# Altium schematic symbol library VC_SchematicLib.SchLib: 86 symbols
Pins are listed as number, name and electrical type; pins without a type are passive.

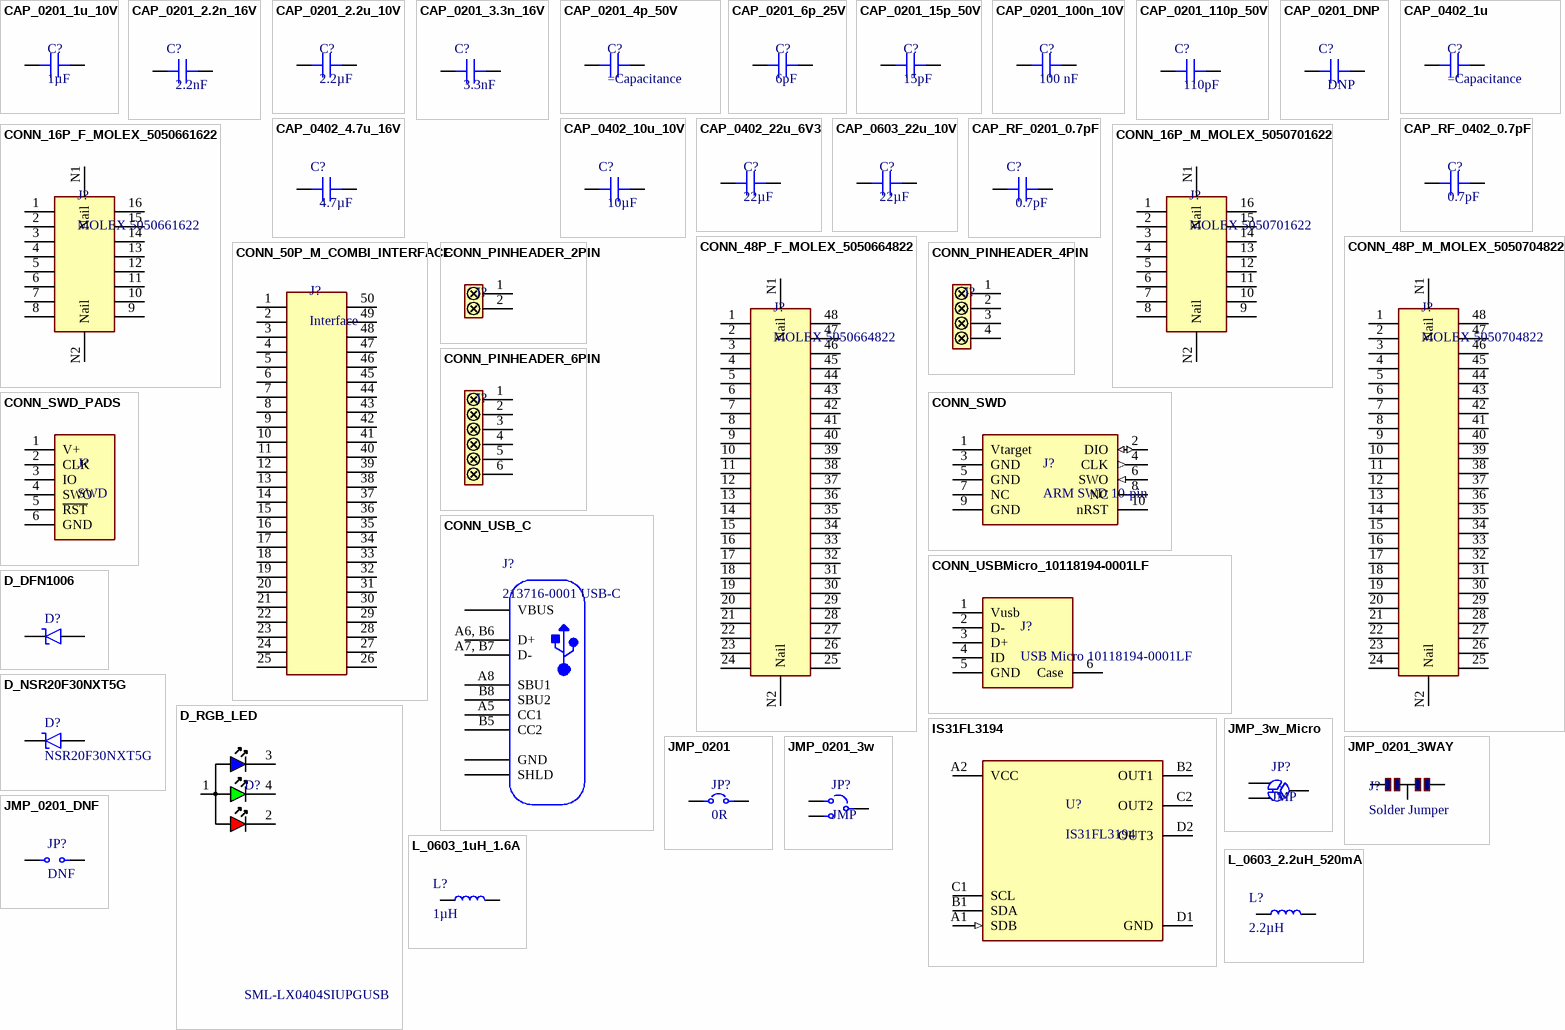
[diagram p0: symbols CAP_0201_1u_10V to L_0603_2.2uH_520mA]

## CAP_0201_1u_10V
designator C?, comment 1µF
CAP CER 1UF 10V X6S; Manufacturer: Murata; Manufacturer Part Number: GRM033C81A105ME05D; Supplier 1: Mouser; Supplier Part Number 1: 81-GRM033C81A105ME5D
footprint CAP_0201
pins: 1, 2

## CAP_0201_2.2n_16V
designator C?, comment 2.2nF
CAP CER 2.2NF 16V X7R 0201; Manufacturer: Murata; Manufacturer Part Number: GRM033R71C222KA88D; Supplier 1: Mouser; Supplier Part Number 1: 81-GRM033R71C222KA8D
footprint CAP_0201
pins: 1, 2

## CAP_0201_2.2u_10V
designator C?, comment 2.2µF
CAP CER 2.2UF 10V X5R 0201; Manufacturer: Murata; Manufacturer Part Number: GRM033R61A225KE47D; Supplier 1: Mouser; Supplier Part Number 1: 81-GRM033R61A225KE7D
footprint CAP_0201
pins: 1, 2

## CAP_0201_3.3n_16V
designator C?, comment 3.3nF
CAP CER 3.3NF 16V X7R 0201; Manufacturer: Murata; Manufacturer Part Number: GRM033R71C332KA88D; Supplier 1: Mouser; Supplier Part Number 1: 81-GRM033R71C332KA88
footprint CAP_0201
pins: 1, 2

## CAP_0201_4p_50V
designator C?
CAP CER 4PF 50V C0G 0201; Manufacturer: Murata; Manufacturer Part Number: GRM0335C1H4R0BA01D; Supplier 1: Mouser; Supplier Part Number 1: 81-GRM0335C1H4R0BA1D
footprint CAP_0201
pins: 1, 2

## CAP_0201_6p_25V
designator C?, comment 6pF
CAP CER 6PF 25V C0G 0201; Manufacturer: Murata; Manufacturer Part Number: GRM0335C1E6R0CA01D; Supplier 1: Mouser; Supplier Part Number 1: 81-GRM0335C1E6R0CA1D
footprint CAP_0201
pins: 1, 2

## CAP_0201_15p_50V
designator C?, comment 15pF
CAP CER 15PF 50V C0G 0201; Manufacturer: Murata; Manufacturer Part Number: GJM0335C1H150GB01D; Supplier 1: Digi-Key; Supplier Part Number 1: 490-GJM0335C1H150GB01DCT-ND
footprint CAP_0201
pins: 1, 2

## CAP_0201_100n_10V
designator C?, comment 100 nF
CAP CER 0.1UF 10V X5R 0201; Manufacturer: Murata; Manufacturer Part Number: GRM033Z71A104KE14D; Supplier 1: Mouser; Supplier Part Number 1: 81-GRM033Z71A104KE4D
footprint CAP_0201
pins: 1, 2

## CAP_0201_110p_50V
designator C?, comment 110pF
CAP CER 110PF 50V C0G 0201; Manufacturer: Murata; Manufacturer Part Number: GRM0335C1H111JA01D; Supplier 1: Mouser; Supplier Part Number 1: 81-GRM0335C1H111JA1D
footprint CAP_0201
pins: 1, 2

## CAP_0201_DNP
designator C?, comment DNP  (no BOM)
CAP CER DNP 0201
footprint CAP_0201_DNP
footprint CAP_0201_RF_WIDE
pins: 1, 2

## CAP_0402_1u
designator C?
CAP CER 1UF 25V X5R 0402; Manufacturer: Samsung; Manufacturer Part Number: CL05A105KA5NNNC; Supplier 1: Mouser; Supplier Part Number 1: 187-CL05A105KA5NNNC
footprint CAP_0402 (Chip Capacitor, 2-Leads, Body 1.02x0.51mm, IPC Medium Density)
pins: 1, 1, 2, 2

## CAP_0402_4.7u_16V
designator C?, comment 4.7µF
CAP CER 4.7UF 16V X5R 0402; Manufacturer: Kyocera AVX; Manufacturer Part Number: 0402YD475MAT2A; Supplier 1: Mouser; Supplier Part Number 1: 581-0402YD475MAT2A
footprint CAP_0402 (Chip Capacitor, 2-Leads, Body 1.02x0.51mm, IPC Medium Density)
pins: 1, 2

## CAP_0402_10u_10V
designator C?, comment 10µF
CAP CER 10UF 10V X5R 0402; Manufacturer: Samsung; Manufacturer Part Number: CL05A106MP5NUNC; Supplier 1: Mouser; Supplier Part Number 1: 187-CL05A106MP5NUNC
footprint CAP_0402 (Chip Capacitor, 2-Leads, Body 1.02x0.51mm, IPC Medium Density)
pins: 1, 2

## CAP_0402_22u_6V3
designator C?, comment 22µF
CAP CER 22UF 6.3V X5R 0402; Manufacturer: Kyocera AVX; Manufacturer Part Number: CM05X5R226M06AH080; Supplier 1: Mouser; Supplier Part Number 1: 346-CM05X5R226M6AH80
footprint CAP_0402 (Chip Capacitor, 2-Leads, Body 1.02x0.51mm, IPC Medium Density)
pins: 1, 2

## CAP_0603_22u_10V
designator C?, comment 22µF
CAP CER 22UF 10V X7R 0603; Manufacturer: Murata; Manufacturer Part Number: GRM187R61A226ME15D; Supplier 1: Mouser; Supplier Part Number 1: 81-GRM187R61A226ME5D
footprint CAP_0603 (Chip Capacitor, 2-Leads, Body 1.60x0.80mm, IPC Medium Density)
pins: 1, 2

## CAP_RF_0201_0.7pF
designator C?, comment 0.7pF
CAP RF CER 0.7PF 25V C0G 0201; Manufacturer: Murata; Manufacturer Part Number: GJM0335C1ER70BB01D; Supplier 1: Mouser; Supplier Part Number 1: 81-GJM0335C1ER70BB1D
footprint CAP_0201
footprint CAP_0201_RF_WIDE
pins: 1, 2

## CAP_RF_0402_0.7pF
designator C?, comment 0.7pF
CAP RF CER 0.7PF 50V C0G 0402; Manufacturer: Murata; Manufacturer Part Number: GRM1555C1HR70BA01D; Supplier 1: Mouser; Supplier Part Number 1: 81-GRM1555C1HR70BA1D
footprint CAP_0402 (Chip Capacitor, 2-Leads, Body 1.02x0.51mm, IPC Medium Density)
pins: 1, 2

## CONN_16P_F_MOLEX_5050661622
designator J?, comment MOLEX 5050661622
Conn Stacking PL 0.6mm Stack Height 16 POS 0.35mm Solder ST SMD Emboss T/R; Manufacturer Part Number: 505066-1622; Supplier 1: Mouser; Manufacturer: Molex; Supplier Part Number 1: 538-505066-1622
pins: 1, 2, 3, 4, 5, 6, 7, 8, 9, 10, 11, 12, 13, 14, 15, 16, N1 Nail, N2 Nail

## CONN_16P_M_MOLEX_5050701622
designator J?, comment MOLEX 5050701622
Conn Stacking Plug 16 Position 0.6mm/0.7mm Stack Height 0.35mm Straight Surface Mount Emboss T/R; Manufacturer Part Number: 505070-1622; Supplier 1: Mouser; Manufacturer: Molex; Supplier Part Number 1: 538-505070-1622
footprint CONN_MOLEX_5050701622
pins: 1, 2, 3, 4, 5, 6, 7, 8, 9, 10, 11, 12, 13, 14, 15, 16, N1 Nail, N2 Nail

## CONN_48P_F_MOLEX_5050664822
designator J?, comment MOLEX 5050664822
Conn Stacking RCP 0.6mm Stack Height 48 POS 0.35mm Solder ST SMD Emboss T/R; Manufacturer Part Number: 505066-4822; Supplier 1: Mouser; Manufacturer: Molex; Supplier Part Number 1: 538-505066-4822
pins: 1, 2, 3, 4, 5, 6, 7, 8, 9, 10, 11, 12, 13, 14, 15, 16, 17, 18, 19, 20, 21, 22, 23, 24, 25, 26, 27, 28, 29, 30, 31, 32, 33, 34, 35, 36, 37, 38, 39, 40, 41, 42, 43, 44, 45, 46, 47, 48, N1 Nail, N2 Nail

## CONN_48P_M_MOLEX_5050704822
designator J?, comment MOLEX 5050704822
Conn Stacking Plug 48 Position 0.6mm/0.7mm Stack Height 0.35mm Straight Surface Mount Emboss T/R; Supplier 1: Mouser; Manufacturer: Molex; Manufacturer Part Number: 5050704822; Supplier Part Number 1: 538-505070-4822
footprint CONN_MOLEX_5050704822
pins: 1, 2, 3, 4, 5, 6, 7, 8, 9, 10, 11, 12, 13, 14, 15, 16, 17, 18, 19, 20, 21, 22, 23, 24, 25, 26, 27, 28, 29, 30, 31, 32, 33, 34, 35, 36, 37, 38, 39, 40, 41, 42, 43, 44, 45, 46, 47, 48, N1 Nail, N2 Nail

## CONN_50P_M_COMBI_INTERFACE
designator J?, comment Interface
50Pin 0.4mm pitch connector footprint that accepts (male) connectors intended for different stacking heights: / Hirose - DF40C-50DP-0.4V(51) for 1.5mm - 3mm stacking height / JAE - WP7B-P050VA1-R8000 - for 0.7mm stacking height
footprint CONN_COMBI_50P (Footprint not found)
pins: 1, 2, 3, 4, 5, 6, 7, 8, 9, 10, 11, 12, 13, 14, 15, 16, 17, 18, 19, 20, 21, 22, 23, 24, 25, 26, 27, 28, 29, 30, 31, 32, 33, 34, 35, 36, 37, 38, 39, 40, 41, 42, 43, 44, 45, 46, 47, 48, 49, 50

## CONN_PINHEADER_2PIN
designator J?, comment 2Pin  (value not drawn)
2 Pin Pinheader.; Supplier 1: Mouser; Supplier Part Number 1: 649-68000-102HLF
footprint CONN_PINHEADER_2PIN
pins: 1, 2

## CONN_PINHEADER_4PIN
designator J?, comment 2Pin  (value not drawn)
4 Pin Pinheader.; Supplier 1: Mouser; Supplier Part Number 1: 649-68001-204HLF
footprint CONN_PINHEADER_4PIN
pins: 1, 2, 3, 4

## CONN_PINHEADER_6PIN
designator J?, comment 6Pin  (value not drawn)
6 Pin Pinheader.
footprint CONN_PINHEADER_6PIN (Footprint not found)
pins: 1, 2, 3, 4, 5, 6

## CONN_SWD
designator J?, comment ARM SWD 10-pin
ARM 10-pin SWD Connector.; Supplier 1: Mouser; Supplier Part Number 1: 710-62201021121
footprint CONN_SWD
pins: 1 Vtarget (power), 2 DIO (io), 3 GND (power), 4 CLK (out), 5 GND (power), 6 SWO (in), 7 NC, 8 NC, 9 GND (power), 10 nRST (oc)

## CONN_SWD_PADS
designator J?, comment SWD  (no BOM)
SWD Pogo Pads
footprint CONN_SWD_PADS_P1.27mm
pins: 1 V+, 2 CLK, 3 IO, 4 SWO, 5 ~{RST}, 6 GND

## CONN_USB_C
designator J?, comment 213716-0001 USB-C
Connector USB Type C Receptacle 16 Position 0.5mm Surface Mount Right Angle Emboss T/R; Manufacturer: Molex; Manufacturer Part Number: 213716-0001; Supplier 1: Mouser; Supplier Part Number 1: 538-213716-0001
footprint CONN_USBC_2137160001 (USB 2.0 Type C connector); pin to pad A1>A1+B12+A12+B1 A4>A4+B9+A9+B4 A6, B6>A6+B6 A7, B7>A7+B7
pins: 0 SHLD, A1 GND, A4 VBUS, A5 CC1, A6, B6 D+, A7, B7 D-, A8 SBU1, B5 CC2, B8 SBU2

## CONN_USBMicro_10118194-0001LF
designator J?, comment USB Micro 10118194-0001LF
CONN USB MICRO B RECPT SMT R/A; Manufacturer: Amphenol ICC / FCI; Supplier 1: Mouser; Manufacturer Part Number: 10118194-0001LF; Supplier Part Number 1: 649-10118194-0001LF
footprint CONN_USBMicro_10118194-0001LF
pins: 1 Vusb, 2 D-, 3 D+, 4 ID, 5 GND, 6 Case

## D_DFN1006
designator D?, comment SBRT05U20LPS-7B  (value not drawn)
Small Signal Schottky Diode, 20 V, 0.5A; Manufacturer: Diodes; Supplier 1: Mouser; Manufacturer Part Number: SBRT05U20LPS-7B; Supplier Part Number 1: 621-SBRT05U20LPS-7B
footprint D_ONSemi_DFN1006
pins: 1 Cathode, 2 Anode

## D_NSR20F30NXT5G
designator D?, comment NSR20F30NXT5G
Small Signal Schottky Diode, 30 V, 2 A; Manufacturer: ON Semiconductor; Manufacturer Part Number: NSR20F30NXT5G; Supplier 1: Mouser; Supplier Part Number 1: 863-NSR20F30NXT5G
footprint DSN2_ONSemi
pins: 1 Cathode, 2 Anode

## D_RGB_LED
designator D?, comment SML-LX0404SIUPGUSB
SML-LX0404SIUPGUSB RGB LED; Manufacturer: Lumex; Supplier 1: Mouser; Manufacturer Part Number: SML-LX0404SIUPGUSB; Supplier Part Number 1: 696-LX0404SIUPGUSB
footprint SML-LX0404SIUPGUSB
pins: 1 Common Anode, 2 Red C, 3 Blue C, 4 Green C

## IS31FL3194
designator U?
LED Driver with Programmable Pattern Sequencing 3-Channel 40mA 8-Pin WCSP T/R; Manufacturer: ISSI; Manufacturer Part Number: IS31FL3194-CLS2-TR; Supplier 1: Digi-Key; Supplier Part Number 1: 2521-IS31FL3194-CLS2-TRCT-ND
footprint WLCSP_8_P0.4
pins: A1 SDB (in), A2 VCC (power), B1 SDA (oc), B2 OUT1 (oc), C1 SCL (oc), C2 OUT2 (oc), D1 GND (power), D2 OUT3 (oc)

## JMP_3w_Micro
designator JP?, comment JMP
JMP 3W Micro for solder briges
pins: 1, 2, 3

## JMP_0201
designator JP?, comment 0R
ERJ Series 0201 0 Ohm 0.05 W Jumper Surface Mount Thick Film Chip Resistor; Manufacturer: Panasonic; Manufacturer Part Number: ERJ-1GN0R00C; Supplier 1: Mouser; Supplier Part Number 1: 667-ERJ-1GN0R00C
footprint JMP_0201 (0201 Jumper)
pins: 1, 2

## JMP_0201_3w
designator JP?, comment JMP
JMP 0201 3W
footprint JMP_0201_3way (Footprint not found)
pins: 1, 2, 3

## JMP_0201_3WAY
designator J?, comment Solder Jumper
Solder Jumper 3 Pads; Manufacturer Part Number: ERJ-1GN0R00C; Manufacturer: Panasonic; Supplier 1: Mouser; Supplier Part Number 1: 667-ERJ-1GN0R00C
footprint JMP_0201_3WAY (Jumper 3 pins 0201x2)
pins: 1, 2, 3

## JMP_0201_DNF
designator JP?, comment DNF  (no BOM)
JMP 0201 NO TRACE DNF
footprint JMP_0201 (0201 Jumper)
pins: 1, 2

## L_0603_1uH_1.6A
designator L?, comment 1µH
L 1uH 1.6A 0603; Manufacturer: Murata; Manufacturer Part Number: DFE18SAN1R0ME0L; Supplier 1: Newark; Supplier Part Number 1: 57AC6593
footprint IND_0603 (0603 Inductor)
pins: 1, 2

## L_0603_2.2uH_520mA
designator L?, comment 2.2µH
L 2.2uH 520mA 0603; Manufacturer: Taiyo Yuden; Manufacturer Part Number: MBKK1608T2R2M; Supplier 1: Mouser; Supplier Part Number 1: 963-MBKK1608T2R2M
footprint IND_0603 (0603 Inductor)
pins: 1, 2

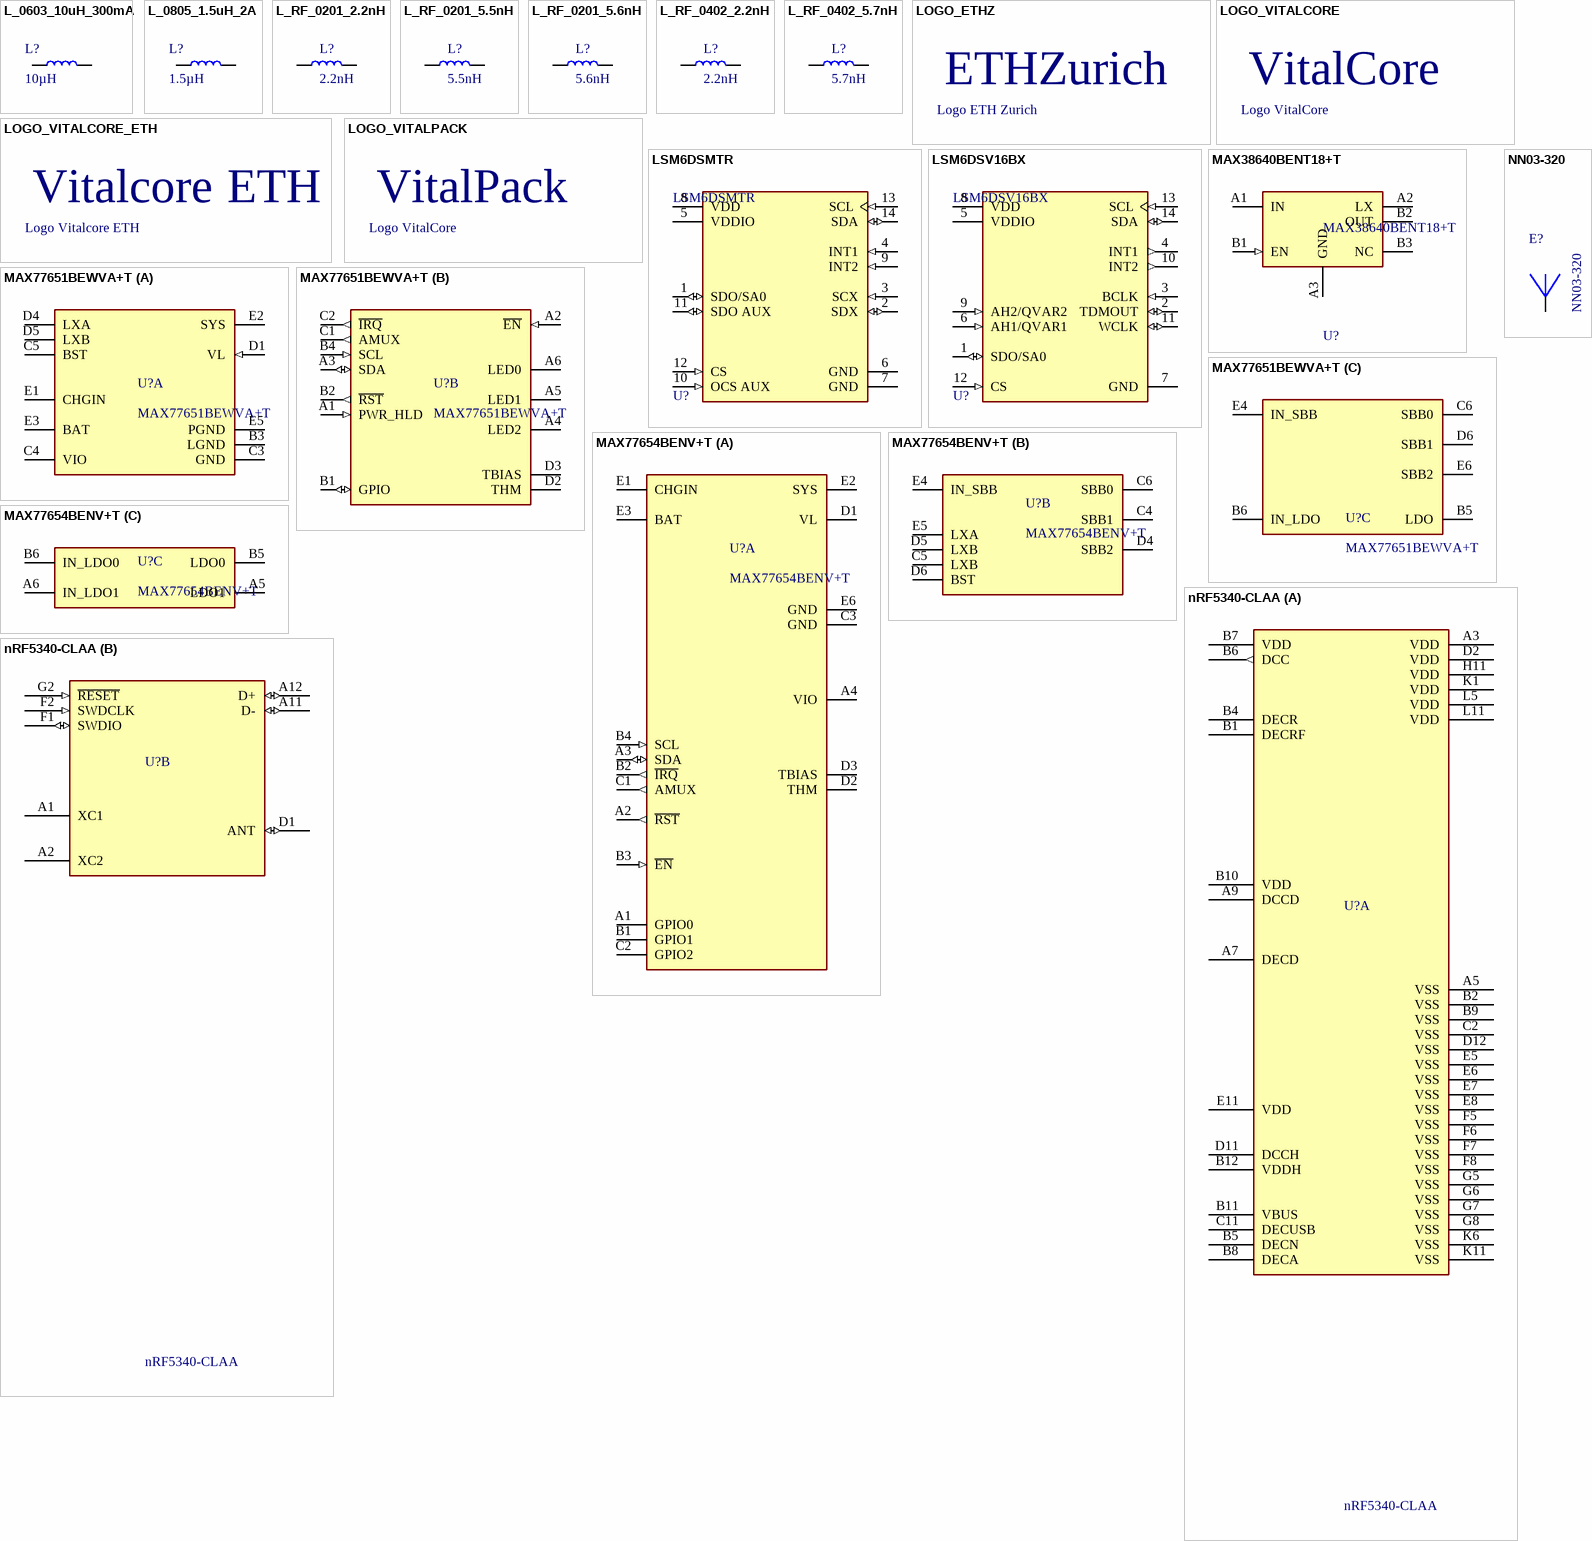
[diagram p1: symbols L_0603_10uH_300mA to nRF5340-CLAA]

## L_0603_10uH_300mA
designator L?, comment 10µH
L 10uH 300mA 0603; Manufacturer: Murata; Manufacturer Part Number: LQM18DN100M70L; Supplier 1: Mouser; Supplier Part Number 1: 81-LQM18DN100M70L
footprint IND_0603 (0603 Inductor)
pins: 1, 2

## L_0805_1.5uH_2A
designator L?, comment 1.5µH
L 1.5uH 2A 0805; Manufacturer: Murata; Manufacturer Part Number: DFE201210S-1R5M=P2; Supplier 1: Mouser; Supplier Part Number 1: 81-DFE201210S-1R5MP2
footprint IND_0805_DFE201210S (0805 Inductor)
pins: 1, 2

## L_RF_0201_2.2nH
designator L?, comment 2.2nH
L 2.2nH RF 0201; Manufacturer: Murata; Manufacturer Part Number: LQP03HQ2N2B02D; Supplier 1: Mouser; Supplier Part Number 1: 81-LQP03HQ2N2B02D
footprint IND_0201_MURATA_LQW03AW (0201 Inductor)
pins: 1, 2

## L_RF_0201_5.5nH
designator L?, comment 5.5nH
L 5.5nH RF 0201; Manufacturer: Coilcraft; Manufacturer Part Number: 0201DS-5N5XJEW; Supplier 1: Mouser; Supplier Part Number 1: 994-0201DS-5N5XJEW
footprint IND_0201_COILCRAFT (0201 Inductor)
pins: 1, 2

## L_RF_0201_5.6nH
designator L?, comment 5.6nH
L 5.6nH RF 0201; Manufacturer: Murata; Manufacturer Part Number: LQW03AW5N6J00D; Supplier 1: Mouser; Supplier Part Number 1: 81-LQW03AW5N6J00D
footprint IND_0201_MURATA_LQW03AW (0201 Inductor)
pins: 1, 2

## L_RF_0402_2.2nH
designator L?, comment 2.2nH
L 2.2nH RF 0402; Manufacturer: Murata; Manufacturer Part Number: LQP15MN2N2W02D; Supplier 1: Mouser; Supplier Part Number 1: 81-LQP15MN2N2W02D
footprint IND_0402 (0402 Inductor)
pins: 1, 2

## L_RF_0402_5.7nH
designator L?, comment 5.7nH
L 5.7nH RF 0402; Manufacturer: Murata; Manufacturer Part Number: LQW15AN5N7G80D; Supplier 1: Mouser; Supplier Part Number 1: 81-LQW15AN5N7G80D
footprint IND_0402_MURRATA (0402 Inductor)
pins: 1, 2

## LOGO_ETHZ
designator A?, comment Logo ETH Zurich  (no BOM)
footprint LOGO_ETHZ_2MM (Logo ETH Zurich)
text: ETHZurich

## LOGO_VITALCORE
designator A?, comment Logo VitalCore  (no BOM)
footprint LOGO_VITALCORE_2MM
text: VitalCore

## LOGO_VITALCORE_ETH
designator A?, comment Logo Vitalcore ETH  (no BOM)
footprint LOGO_VITALCORE_ETHZ_1.3MM_MASK
text: Vitalcore; ETH

## LOGO_VITALPACK
designator ?, comment Logo VitalCore  (no BOM)
footprint LOGO_VITALPACK_2MM
text: VitalPack

## LSM6DSMTR
designator U?
IMU ACCEL/GYRO I2C/SPI 14LGA; Manufacturer: STMicroelectronics; Manufacturer Part Number: LSM6DSMTR; Supplier 1: Digi-Key; Supplier Part Number 1: 497-16696-2-ND
footprint LGA-14_STM (LG1-14 package of STM comatible with various components)
pins: 1 SDO/SA0 (io), 2 SDX (io), 3 SCX (in), 4 INT1 (in), 5 VDDIO (power), 6 GND (power), 7 GND (power), 8 VDD (power), 9 INT2 (in), 10 OCS AUX (in), 11 SDO AUX (io), 12 CS (in), 13 SCL (in), 14 SDA (io)

## LSM6DSV16BX
designator U?
IMU ACCEL/GYRO I2C/SPI 14LGA; Manufacturer: STMicroelectronics; Manufacturer Part Number: LSM6DSV16BX; Supplier 1: Mouser; Supplier Part Number 1: 511-LSM6DSV16BXTR
footprint LGA-14_STM (LG1-14 package of STM comatible with various components)
pins: 1 SDO/SA0 (io), 2 TDMOUT (io), 3 BCLK (in), 4 INT1 (out), 5 VDDIO (power), 6 AH1/QVAR1 (in), 7 GND (power), 8 VDD (power), 9 AH2/QVAR2 (in), 10 INT2 (out), 11 WCLK (io), 12 CS (in), 13 SCL (in), 14 SDA (io)

## MAX38640BENT18+T
designator U?
Buck Switching Regulator IC Positive Fixed 1.8V 1 Output 175mA 6-WLP; Manufacturer: Maxim; Supplier 1: Mouser; Supplier Part Number 1: 700-MAX38640BENT18T; Manufacturer Part Number: MAX38640BENT18+T
footprint THIN_WLP_6_MAX38640
pins: A1 IN (power), A2 LX, A3 GND (power), B1 EN (in), B2 OUT, B3 NC

## MAX77651BEWVA+T
designator U?
Battery Management Ultra-Low Power PMIC
footprint WLP_30_MAX77651
part A pins: B3 LGND (power), C3 GND (power), C4 VIO (power), C5 BST (power), D1 VL (in), D4 LXA, D5 LXB, E1 CHGIN (oe), E2 SYS (power), E3 BAT (power), E5 PGND (power)
part B pins: A1 PWR_HLD (in), A2 ~{EN} (in), A3 SDA (io), A4 LED2, A5 LED1, A6 LED0, B1 GPIO (io), B2 ~{RST} (out), B4 SCL (in), C1 AMUX (out), C2 ~{IRQ} (out), D2 THM, D3 TBIAS
part C pins: B5 LDO (power), B6 IN_LDO (power), C6 SBB0 (power), D6 SBB1 (power), E4 IN_SBB (power), E6 SBB2 (power)

## MAX77654BENV+T
designator U?
Buck-Boost Converter With LDO Regulator 5-OUT 30-Pin WLP T/R; Manufacturer: Maxim; Manufacturer Part Number: MAX77654BENV+T; Supplier 1: Mouser; Supplier Part Number 1: 700-MAX77654BENV+T
footprint WLP_30_MAX77654
part A pins: A1 GPIO0, A2 ~{RST} (out), A3 SDA (io), A4 VIO (power), B1 GPIO1, B2 ~{IRQ} (out), B3 ~{EN} (in), B4 SCL (in), C1 AMUX (out), C2 GPIO2, C3 GND (power), D1 VL, D2 THM, D3 TBIAS, E1 CHGIN (oe), E2 SYS (power), E3 BAT (power), E6 GND (power)
part B pins: C4 SBB1 (power), C5 LXB, C6 SBB0 (power), D4 SBB2 (power), D5 LXB, D6 BST (power), E4 IN_SBB (power), E5 LXA
part C pins: A5 LDO1 (power), A6 IN_LDO1 (power), B5 LDO0 (power), B6 IN_LDO0 (power)

## NN03-320
designator E?
Integrated Chip Antenna; Manufacturer: Fractus Antennas; Supplier 1: Mouser; Manufacturer Part Number: NN03-320; Supplier Part Number 1: 128-NN03-320
footprint NN03-320
pins: 1

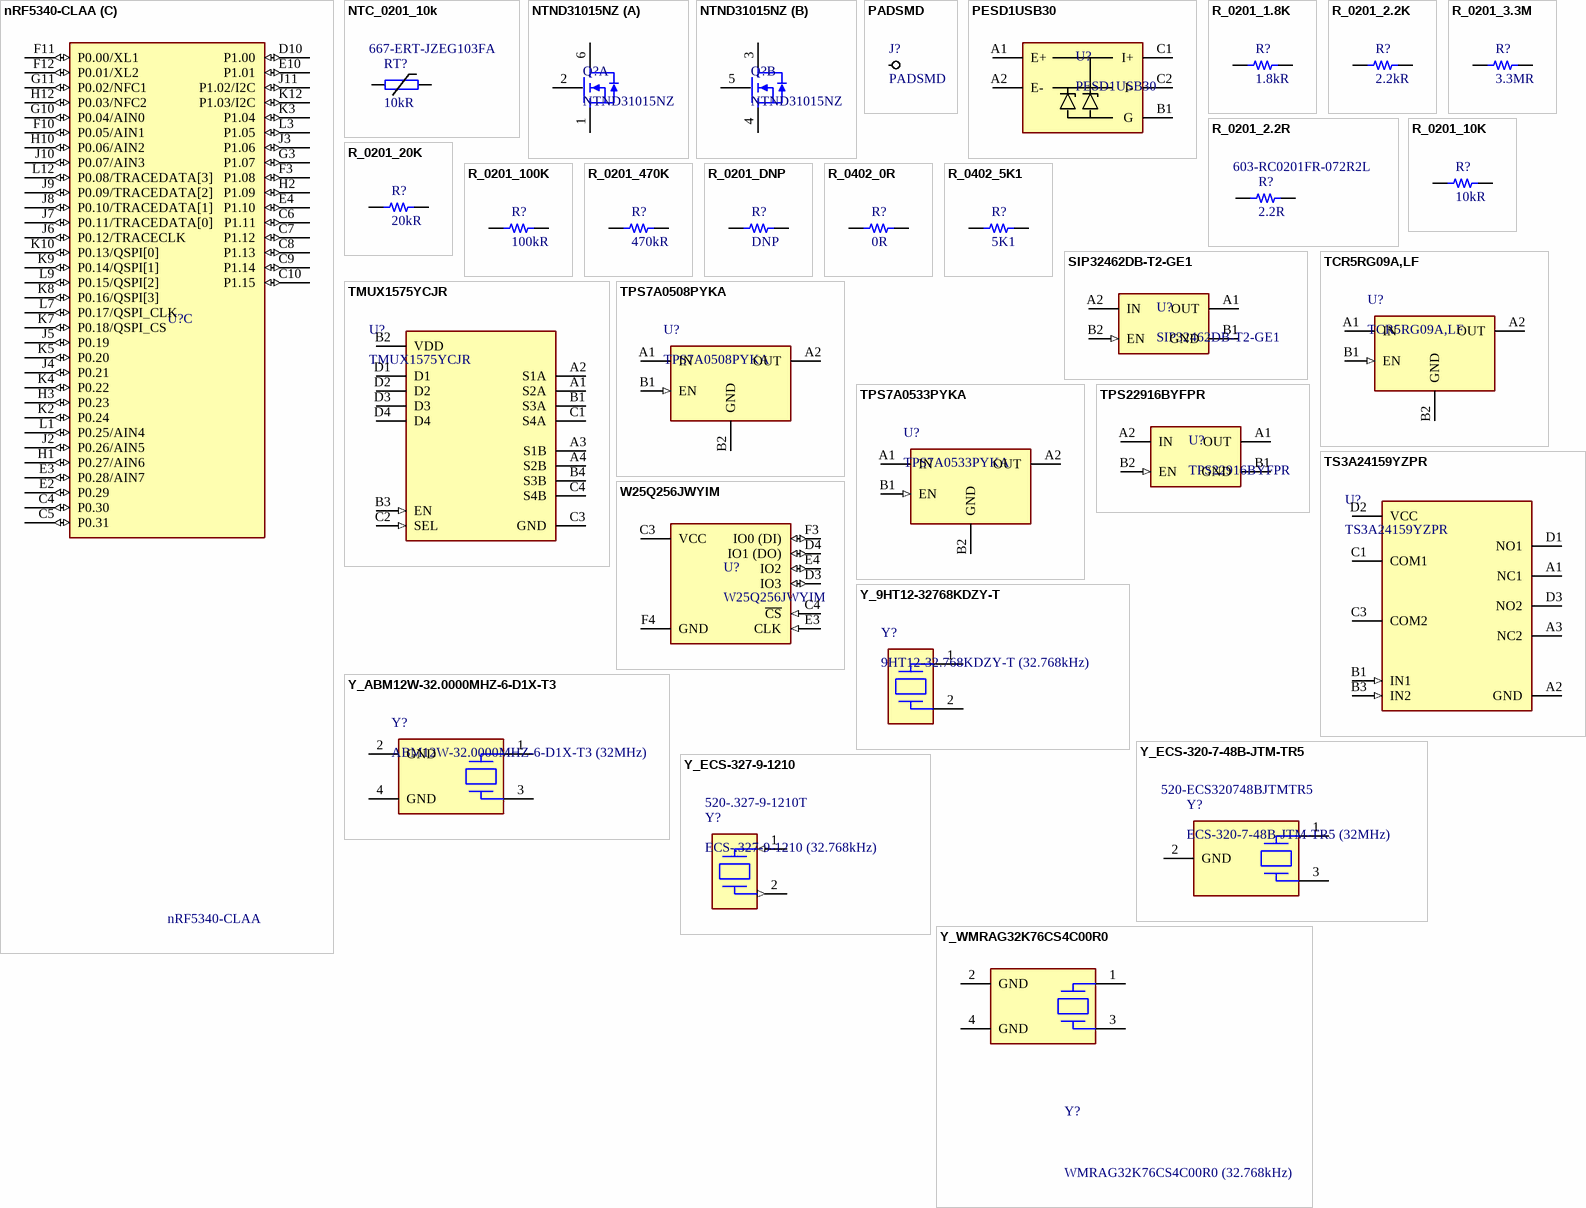
[diagram p2: symbols nRF5340-CLAA to Y_WMRAG32K76CS4C00R0]

## nRF5340-CLAA
designator U?
Multi-protocol Bluetooth Low Energy, IEEE 802.15.4, ANT and 2.4GHz proprietary system-on-chip; Manufacturer: Nordic; Manufacturer Part Number: NRF5340-CLAA-R7; Supplier 1: Mouser; Supplier Part Number 1: 949-NRF5340-CLAA-R7
footprint NRF5340_WLCSP
part A pins: A3 VDD (power), A5 VSS (power), A7 DECD (power), A9 DCCD (power), B1 DECRF (power), B2 VSS (power), B4 DECR (power), B5 DECN (power), B6 DCC (out), B7 VDD (power), B8 DECA (power), B9 VSS (power), B10 VDD (power), B11 VBUS (power), B12 VDDH (power), C2 VSS (power), C11 DECUSB (power), D2 VDD (power), D11 DCCH (power), D12 VSS (power), E5 VSS (power), E6 VSS (power), E7 VSS (power), E8 VSS (power), E11 VDD (power), F5 VSS (power), F6 VSS (power), F7 VSS (power), F8 VSS (power), G5 VSS (power), G6 VSS (power), G7 VSS (power), G8 VSS (power), H11 VDD (power), K1 VDD (power), K6 VSS (power), K11 VSS (power), L5 VDD (power), L11 VDD (power)
part B pins: A1 XC1, A2 XC2, A11 D- (io), A12 D+ (io), D1 ANT (io), F1 SWDIO (io), F2 SWDCLK (in), G2 ~{RESET} (in)
part C pins: C4 P0.30 (io), C5 P0.31 (io), C6 P1.11 (io), C7 P1.12 (io), C8 P1.13 (io), C9 P1.14 (io), C10 P1.15 (io), D10 P1.00 (io), E2 P0.29 (io), E3 P0.28/AIN7 (io), E4 P1.10 (io), E10 P1.01 (io), F3 P1.08 (io), F10 P0.05/AIN1 (io), F11 P0.00/XL1 (io), F12 P0.01/XL2 (io), G3 P1.07 (io), G10 P0.04/AIN0 (io), G11 P0.02/NFC1 (io), H1 P0.27/AIN6 (io), H2 P1.09 (io), H3 P0.23 (io), H10 P0.06/AIN2 (io), H12 P0.03/NFC2 (io), J2 P0.26/AIN5 (io), J3 P1.06 (io), J4 P0.21 (io), J5 P0.19 (io), J6 P0.12/TRACECLK (io), J7 P0.11/TRACEDATA[0] (io), J8 P0.10/TRACEDATA[1] (io), J9 P0.09/TRACEDATA[2] (io), J10 P0.07/AIN3 (io), J11 P1.02/I2C (io), K2 P0.24 (io), K3 P1.04 (io), K4 P0.22 (io), K5 P0.20 (io), K7 P0.18/QSPI_CS (io), K8 P0.16/QSPI[3] (io), K9 P0.14/QSPI[1] (io), K10 P0.13/QSPI[0] (io), K12 P1.03/I2C (io), L1 P0.25/AIN4 (io), L3 P1.05 (io), L7 P0.17/QSPI_CLK (io), L9 P0.15/QSPI[2] (io), L12 P0.08/TRACEDATA[3] (io)

## NTC_0201_10k
designator RT?, comment 10kR  Supplier Part Number 1: 667-ERT-JZEG103FA
NTC 10K 1% 0201 3380K; Manufacturer: Panasonic; Manufacturer Part Number: ERTJZEG103FA; Supplier 1: Mouser
footprint RES_0201 (Chip Resistor, 2-Leads, Body 0.60x0.30mm, IPC Medium Density)
pins: 1, 2

## NTND31015NZ
designator Q?
Dual N-CH Mosfet 20V 200mA; Manufacturer: ON Semiconductor; Manufacturer Part Number: NTND31015NZTAG; Supplier 1: Mouser; Supplier Part Number 1: 863-NTND31015NZTAG
footprint ONSEMI_XLLGA_6
part A pins: 1 S1, 2 G1, 6 D1
part B pins: 3 D2, 4 S2, 5 G2

## PADSMD
designator J?  (no BOM)
SMD Pad
footprint PADSMD (Small SMD Pad)
footprint PADSMD_ROUND (Footprint not found)
pins: 0

## PESD1USB30
designator U?
ESD Suppressor Diode TVS Uni-Dir 5V 5-Pin WLCSP T/R; Manufacturer: NXP Semiconductors; Manufacturer Part Number: PESD1USB30; Supplier 1: Mouser; Supplier Part Number 1: 771-PESD1USB30Z
footprint WLCSP_5_2-1-2_P0.4
pins: A1 E+, A2 E-, B1 G, C1 I+, C2 I-

## R_0201_1.8K
designator R?, comment 1.8kR
R 1.8K 1% 50mW 0201; Manufacturer: Panasonic; Manufacturer Part Number: ERJ-1GNF1801C; Supplier 1: Mouser; Supplier Part Number 1: 667-ERJ-1GNF1801C
footprint RES_0201 (Chip Resistor, 2-Leads, Body 0.60x0.30mm, IPC Medium Density)
pins: 1, 2

## R_0201_2.2K
designator R?, comment 2.2kR
R 2.2K 1% 50mW 0201; Manufacturer: Panasonic; Manufacturer Part Number: ERJ-1GNF2201C; Supplier 1: Mouser; Supplier Part Number 1: 667-ERJ-1GNF2201C
footprint RES_0201 (Chip Resistor, 2-Leads, Body 0.60x0.30mm, IPC Medium Density)
pins: 1, 2

## R_0201_2.2R
designator R?, comment 2.2R  Supplier Part Number 1: 603-RC0201FR-072R2L
R 2.2R 1% 50mW 0201; Manufacturer: Yageo; Manufacturer Part Number: RC0201FR-072R2L; Supplier 1: Mouser
footprint RES_0201 (Chip Resistor, 2-Leads, Body 0.60x0.30mm, IPC Medium Density)
pins: 1, 2

## R_0201_3.3M
designator R?, comment 3.3MR
R 3.3M 1% 50mW 0201; Manufacturer: Vishay Draloric; Manufacturer Part Number: CRCW02013M30FNED; Supplier 1: Mouser; Supplier Part Number 1: 71-CRCW02013M30FNED
footprint RES_0201 (Chip Resistor, 2-Leads, Body 0.60x0.30mm, IPC Medium Density)
pins: 1, 2

## R_0201_10K
designator R?, comment 10kR
R 10K 1% 50mW 0201; Manufacturer: Panasonic; Manufacturer Part Number: ERJ-1GNF1002C; Supplier 1: Mouser; Supplier Part Number 1: 667-ERJ-1GNF1002C
footprint RES_0201 (Chip Resistor, 2-Leads, Body 0.60x0.30mm, IPC Medium Density)
pins: 1, 2

## R_0201_20K
designator R?, comment 20kR
R 20K 1% 50mW 0201; Manufacturer: Vishay; Manufacturer Part Number: CRCW020120K0FNED; Supplier 1: Mouser; Supplier Part Number 1: 71-CRCW0201-20K
footprint RES_0201 (Chip Resistor, 2-Leads, Body 0.60x0.30mm, IPC Medium Density)
pins: 1, 2

## R_0201_100K
designator R?, comment 100kR
R 100K 1% 50mW 0201; Manufacturer: Panasonic; Manufacturer Part Number: ERJ-1GNF1003C; Supplier 1: Mouser; Supplier Part Number 1: 667-ERJ-1GNF1003C
footprint RES_0201 (Chip Resistor, 2-Leads, Body 0.60x0.30mm, IPC Medium Density)
pins: 1, 2

## R_0201_470K
designator R?, comment 470kR
R 470K 1% 50mW 0201; Manufacturer: Panasonic; Manufacturer Part Number: ERJ-1GNF4703C; Supplier 1: Mouser; Supplier Part Number 1: 667-ERJ-1GNF4703C
footprint RES_0201 (Chip Resistor, 2-Leads, Body 0.60x0.30mm, IPC Medium Density)
pins: 1, 2

## R_0201_DNP
designator R?, comment DNP  (no BOM)
R DNP 0201
footprint RES_0201_DNF (Chip Resistor, 2-Leads, Body 0.60x0.30mm, IPC Medium Density)
pins: 1, 2

## R_0402_0R
designator R?, comment 0R
R 0R 0402
footprint RES_0402
pins: 1, 2

## R_0402_5K1
designator R?, comment 5K1
R 5120R 1% 100mW 0402; Manufacturer: Panasonic; Manufacturer Part Number: ERJ-2RKF5101X; Supplier 1: Mouser; Supplier Part Number 1: 667-ERJ-2RKF5101X
footprint RES_0402
pins: 1, 2

## SIP32462DB-T2-GE1
designator U?
Power Switch Hi Side 1.2A Medical 4-Pin WCSP T/R; Manufacturer: Vishay; Supplier 1: Digi-Key; Manufacturer Part Number: SIP32462DB-T2-GE1; Supplier Part Number 1: SIP32462DB-T2-GE1CT-ND
footprint WLCSP_4_P0.4
pins: A1 OUT (power), A2 IN (power), B1 GND (power), B2 EN (in)

## TCR5RG09A,LF
designator U?
LDO Regulator Pos 0.9V 0.5A 4-Pin WCSP-F T/R; Manufacturer: Toshiba; Supplier 1: Mouser; Manufacturer Part Number: TCR5RG09A,LF; Supplier Part Number 1: 757-TCR5RG09ALF
footprint WLCSP_4_p0.35
pins: A1 IN (power), A2 OUT (power), B1 EN (in), B2 GND (power)

## TMUX1575YCJR
designator U?
2:1 (SPDT) 4-channel, powered-off protection switch with 1.8-V logic; Manufacturer: Texas Instruments; Supplier 1: Mouser; Supplier Part Number 1: 595-TMUX1575YCJR; Manufacturer Part Number: TMUX1575YCJR
footprint TI_BSBGA_YCJ0016
pins: A1 S2A, A2 S1A, A3 S1B, A4 S2B, B1 S3A, B2 VDD (power), B3 EN (in), B4 S3B, C1 S4A, C2 SEL (in), C3 GND (power), C4 S4B, D1, D2, D3, D4

## TPS7A0508PYKA
designator U?
LDO Regulator Positive 0.8V 500mA 4-Pin DSBGA T/R; Manufacturer: Texas Instruments; Manufacturer Part Number: TPS7A0508PYKAR; Supplier 1: Mouser; Supplier Part Number 1: 595-TPS7A0508PYKAR
footprint WLCSP_4_p0.35
pins: A1 IN (power), A2 OUT (power), B1 EN (in), B2 GND (power)

## TPS7A0533PYKA
designator U?
LDO Regulator Positive 3.3V 0.2A 4-Pin DSBGA T/R; Manufacturer: Texas Instruments; Manufacturer Part Number: TPS7A0533PYKAR; Supplier 1: Mouser; Supplier Part Number 1: 595-TPS7A0533PYKAR
footprint WLCSP_4_p0.35
pins: A1 IN (power), A2 OUT (power), B1 EN (in), B2 GND (power)

## TPS22916BYFPR
designator U?
5.5-V, 2-A, 60-mΩ, 10-nA leakage load switch with output discharge 4-DSBGA -40 to 85; Manufacturer: Texas Instruments; Supplier 1: Mouser; Manufacturer Part Number: TPS22916BYFPR; Supplier Part Number 1: 595-TPS22916BYFPR
footprint WLCSP_4_P0.4
pins: A1 OUT (power), A2 IN (power), B1 GND (power), B2 EN (in)

## TS3A24159YZPR
designator U?
2:1 (SPDT), 2-channel analog switch with 1.8-V input logic; Manufacturer: Texas Instruments; Supplier 1: Mouser; Supplier Part Number 1: 595-TS3A24159YZPR; Manufacturer Part Number: TS3A24159YZPR
footprint TI_DSBGA_YZP0010
pins: A1 NC1, A2 GND (power), A3 NC2, B1 IN1 (in), B3 IN2 (in), C1 COM1, C3 COM2, D1 NO1, D2 VCC (power), D3 NO2

## W25Q256JWYIM
designator U?
NOR-Flash spiFlash, 1.8V, 256M-bit, 4Kb Uniform Sector, DTR; Manufacturer Part Number: W25Q256JWYIM TR; Manufacturer: Winbond; Supplier 1: Mouser; Supplier Part Number 1: 454-W25Q256JWYIMTR
footprint WLCSP_32_W25Q256JWYIM
pins: C3 VCC (power), C4 ~{CS} (in), D3 IO3 (io), D4 IO1 (DO) (io), E3 CLK (in), E4 IO2 (io), F3 IO0 (DI) (io), F4 GND (power)

## Y_9HT12-32768KDZY-T
designator Y?, comment 9HT12-32.768KDZY-T (32.768kHz)
9HT12 Series 1.6 x 1 x 0.5 mm 32.768 kHz ±20 ppm 7 pF Ceramic Crystal; Manufacturer: TXC; Supplier 1: Mouser; Manufacturer Part Number: 9HT12-32.768KDZY-T; Supplier Part Number 1: 717-9HT12-32.76KDZYT
footprint Y_9HT12
pins: 1, 2

## Y_ABM12W-32.0000MHZ-6-D1X-T3
designator Y?, comment ABM12W-32.0000MHZ-6-D1X-T3 (32MHz)
Crystal 32MHz ±10ppm (Tol) ±20ppm (Stability) 6pF FUND 100Ohm 4-Pin SMD T/R; Manufacturer: Abracon; Supplier 1: Mouser; Manufacturer Part Number: ABM12W-32.0000MHZ-6-D1X-T3; Supplier Part Number 1: 815-12W32-6D1XT
footprint Y_ABM12W
pins: 1, 2 GND (power), 3, 4 GND (power)

## Y_ECS-320-7-48B-JTM-TR5
designator Y?, comment ECS-320-7-48B-JTM-TR5 (32MHz)  Supplier Part Number 1: 520-ECS320748BJTMTR5
Crystal 32MHz 7pF ±20ppm ±20ppm 4-Pin Ultraminiature CSMD T/R; Manufacturer: ECS International; Manufacturer Part Number: ECS-320-7-48B-JTM-TR5; Supplier 1: Mouser
footprint Y_ECX-1048
pins: 1, 2 GND (power), 3

## Y_ECS-327-9-1210
designator Y?, comment ECS-.327-9-1210 (32.768kHz)  Supplier Part Number 1: 520-.327-9-1210T
Crystal 32.768KHZ 9PFSMD ECX-1210 Khz Crystal 32.768KHZ 20PPM 90K Ohm -40C ~ 85C 2-SMD; Manufacturer: ECS International; Manufacturer Part Number: ECS-.327-9-1210-TR; Supplier 1: Mouser
footprint Y_ECX-1210
pins: 1 (in), 2 (out)

## Y_WMRAG32K76CS4C00R0
designator Y?, comment WMRAG32K76CS4C00R0 (32.768kHz)
32.768kHz ±20ppm Crystal 8pF 75 kOhms 4-SMD, No Lead; Manufacturer: Murata; Supplier 1: Digi-Key; Supplier Part Number 1: 490-WMRAG32K76CS4C00R0CT-ND; Manufacturer Part Number: WMRAG32K76CS4C00R0
footprint Y_WMRAG32K76CS4C00R0 (LGA)
pins: 1, 2 GND (power), 3, 4 GND (power)